# Altium schematic symbol library FOC_BOARD.SchLib: 18 symbols
Pins are listed as number, name and electrical type; pins without a type are passive.

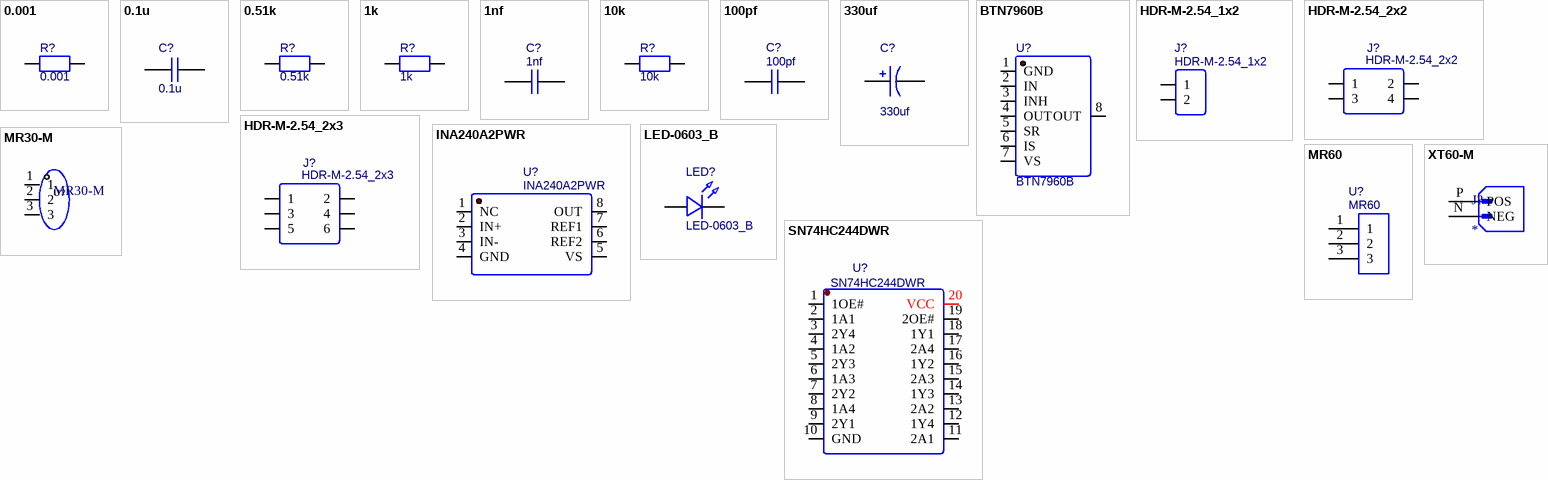
[diagram p0: symbols 0.001 to XT60-M]

## 0.001
designator R?
nameAlias: Value(Ω); Contributor: LCEDA_Lib; spicePre: R; spiceSymbolName: R_0603_EU
footprint R2512
pins: 1, 2

## 0.1u
designator C?
nameAlias: Value(F); Contributor: LCEDA_Lib; spicePre: C; spiceSymbolName: C_0603_US
footprint C0603
pins: 1, 2

## 0.51k
designator R?
nameAlias: Value(Ω); Contributor: LCEDA_Lib; spicePre: R; spiceSymbolName: R_0603_EU
footprint R0603
pins: 1, 2

## 1k
designator R?
nameAlias: Value(Ω); Contributor: LCEDA_Lib; spicePre: R; spiceSymbolName: R_0603_EU
footprint R0603
pins: 1, 2

## 1nf
designator C?
nameAlias: Value(F); Contributor: LCEDA_Lib; spicePre: C; spiceSymbolName: C_0603_US
footprint C0603
pins: 1, 2

## 10k
designator R?
nameAlias: Value(Ω); Contributor: LCEDA_Lib; spicePre: R; spiceSymbolName: R_0603_EU
footprint R0603
pins: 1, 2

## 100pf
designator C?
nameAlias: Value(F); Contributor: LCEDA_Lib; spicePre: C; spiceSymbolName: C_0603_US
footprint C0603
pins: 1, 2

## 330uf
designator C?
nameAlias: Value(F); Contributor: LCEDA_Lib; spicePre: C; spiceSymbolName: C_Tan_SMD_A_US
footprint CAP-T-10*10.5
pins: 1, 2

## BTN7960B
designator U?
BOM_Manufacturer: Infineon(英飞凌); Contributor: LCSC; BOM_Supplier: LCSC; BOM_Supplier Part: C648660; BOM_Manufacturer Part: BTN7960B; BOM_JLCPCB Part Class: Extended Part; spicePre: U; spiceSymbolName: BTN7960B
footprint TO-263-7_L10.2-W10.4-P1.27-LS14.4-TL
pins: 1 GND, 2 IN, 3 INH, 4 OUT, 5 SR, 6 IS, 7 VS, 8 OUT

## HDR-M-2.54_1x2
designator J?
Contributor: LCEDA_Lib; BOM_Supplier Part: C124375; BOM_Supplier: LCSC; spicePre: J; spiceSymbolName: HDR-M-2.54_1x2
footprint HDR-M-2.54_1X2
pins: 1, 2

## HDR-M-2.54_2x2
designator J?
Contributor: LCEDA_Lib; BOM_Supplier Part: C66690; BOM_Supplier: LCSC; spicePre: J; spiceSymbolName: HDR-M-2.54_2x2
footprint HDR-M-2.54_2X2
pins: 1, 2, 3, 4

## HDR-M-2.54_2x3
designator J?
Contributor: LCEDA_Lib; BOM_Supplier Part: C65114; BOM_Supplier: LCSC; spicePre: J; spiceSymbolName: HDR-M-2.54_2x3
footprint HDR-M-2.54_2X3
pins: 1, 2, 3, 4, 5, 6

## INA240A2PWR
designator U?
BOM_Manufacturer: TI; Contributor: LCSC; BOM_Supplier: LCSC; BOM_Manufacturer Part: INA240A2PWR; BOM_Supplier Part: C129949; BOM_JLCPCB Part Class: Extended Part; spicePre: U; spiceSymbolName: INA240A2PWR
footprint TSSOP-8_L4.4-W3.0-P0.65-LS6.4-BL
pins: 1 NC, 2 IN+, 3 IN-, 4 GND, 5 VS, 6 REF2, 7 REF1, 8 OUT

## LED-0603_B
designator LED?
BOM_Manufacturer: EVERLIGHT(台湾亿光); BOM_Manufacturer Part: 19-217/BHC-ZL1M2RY/3T; Contributor: LCEDA_01; BOM_Supplier Part: C72041; BOM_Supplier: LCSC; spicePre: L; spiceSymbolName: LED-0603_B
footprint LED0603_BLUE
pins: 1, 2

## MR30-M
designator U?
Manufacturer: AMASS(艾迈斯); Add into BOM: yes; Name: MR30-M; Symbol: MR30-M; Device: MR30-M; LCSC Part Name: MR30-M 两件套; Supplier Part: C99873; Manufacturer Part: MR30-M; Supplier Footprint: -; JLCPCB Part Class: Extended Part; Datasheet: https://atta.szlcsc.com/upload/public/pdf/source/20170412/1491969315720.pdf; Supplier: LCSC; Convert to PCB: yes
footprint CONN-TH_MR30-M
pins: 1, 2, 3

## MR60
designator U?
Contributor: zjsxzc217; spicePre: U; spiceSymbolName: MR60
footprint MR60_F
pins: 1, 2, 3

## SN74HC244DWR
designator U?
BOM_Manufacturer: TI; BOM_Manufacturer Part: SN74AHC244DWR; SMT Type: Extend; spicePre: X; BOM_Supplier: LCSC; image: //image.lceda.cn/szlcsc/C7473.jpg; BOM_Supplier Part: C7473; BOM_LCSC Assembly: Yes; spiceSymbolName: SN74AHC244DWR
footprint SN74HC244DWR (Footprint not found)
pins: 1 1OE#, 2 1A1, 3 2Y4, 4 1A2, 5 2Y3, 6 1A3, 7 2Y2, 8 1A4, 9 2Y1, 10 GND, 11 2A1, 12 1Y4, 13 2A2, 14 1Y3, 15 2A3, 16 1Y2, 17 2A4, 18 1Y1, 19 2OE#, 20 VCC

## XT60-M
designator J?
Plug; DC supply; XT60; male; PIN: 2; for cable; soldered; 30A; 500V; MP: XT60-M; MF: AMASS; Package: Package; Availability: Not in stock; SnapEDA_Link: https://www.snapeda.com/parts/XT60-M/AMASS/view-part/?ref=snap; Check_prices: https://www.snapeda.com/parts/XT60-M/AMASS/view-part/?ref=eda; Price: None; Value: *
footprint AMASS_XT60-M
pins: N NEG, P POS